# Altium integrated library ISSI SRAM Synchronous SRAM Flow-Through.IntLib: 689 symbols (part 79 of 79)
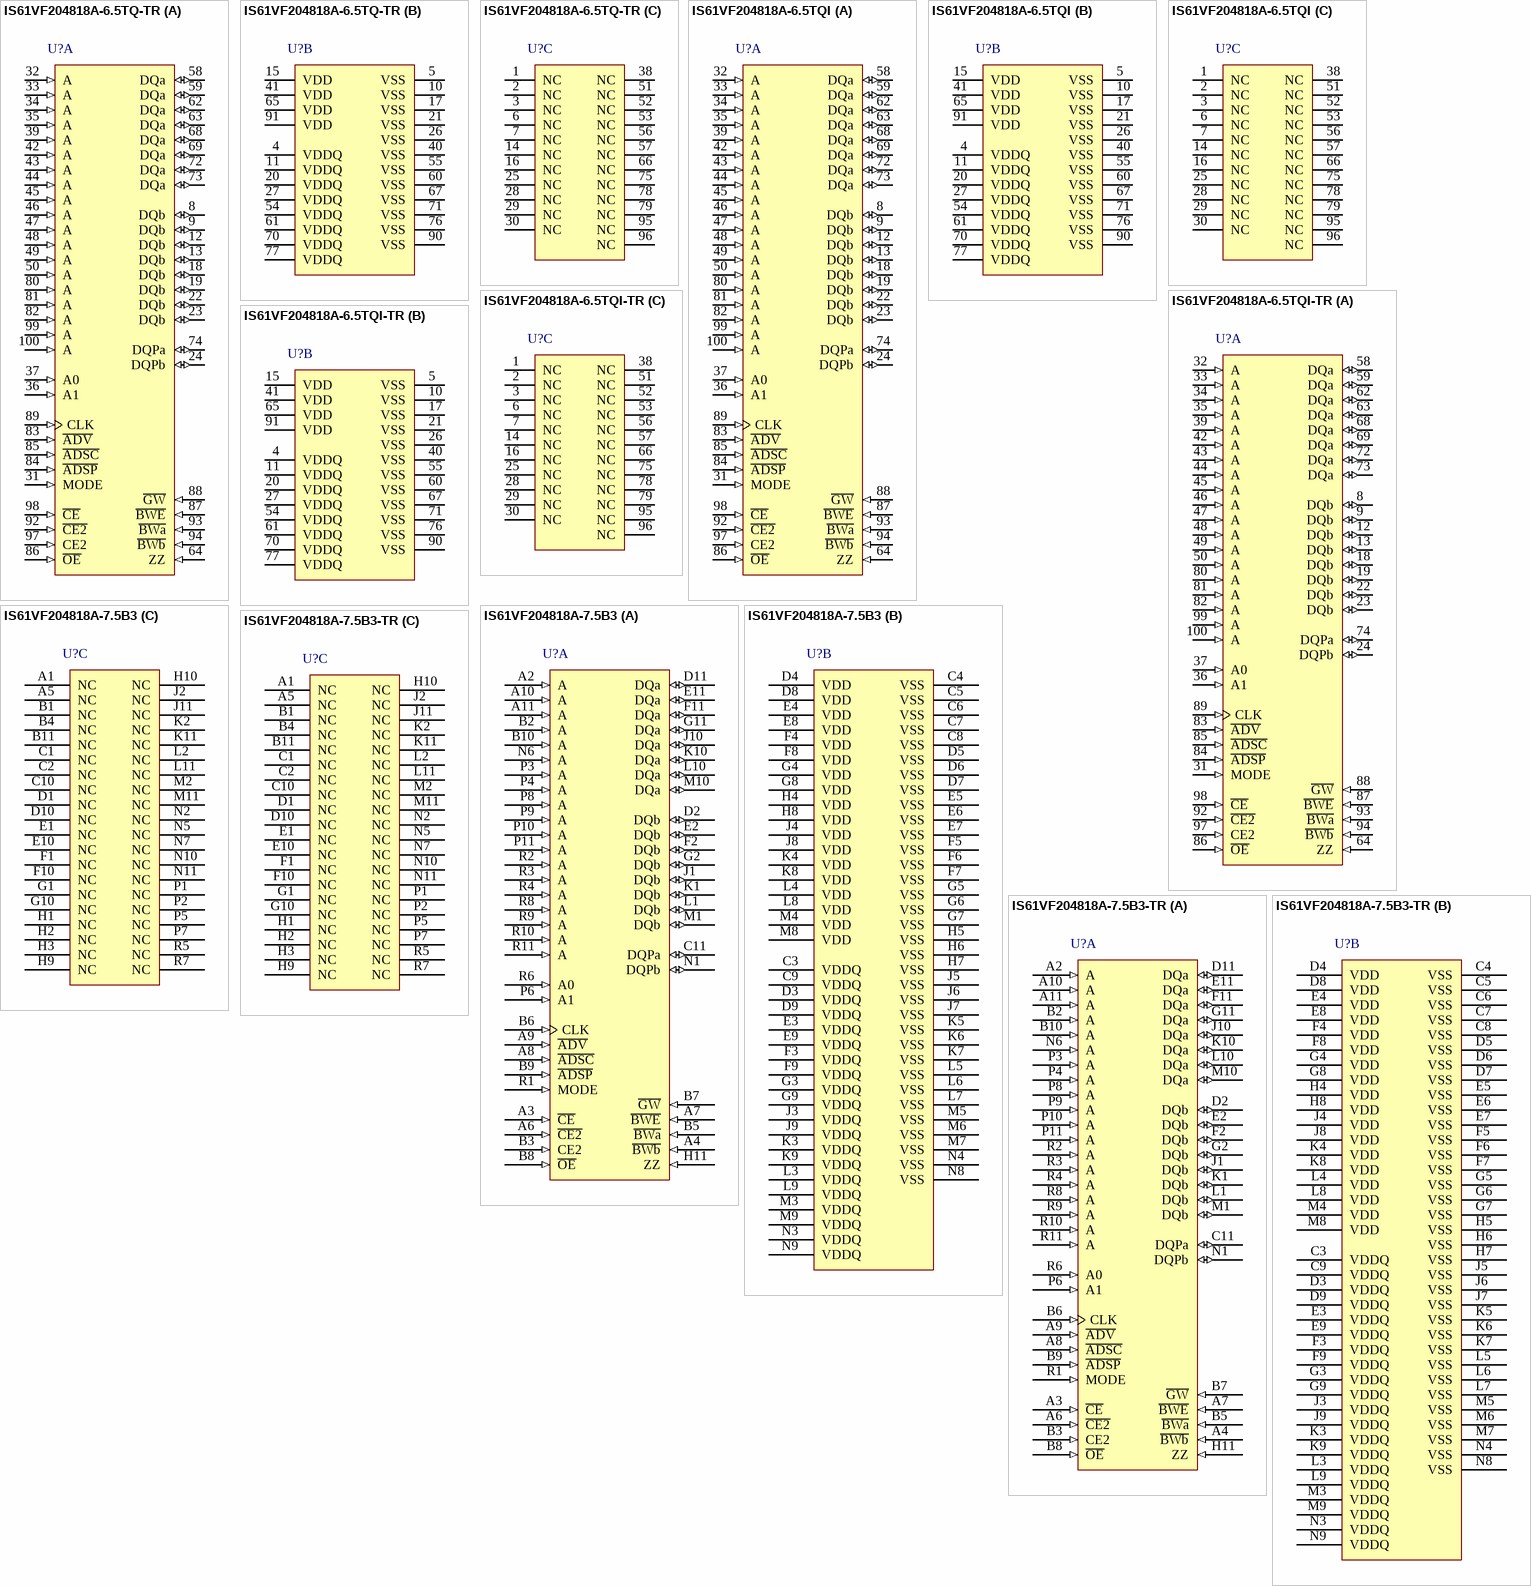
[diagram p213: symbols IS61VF204818A-6.5TQ-TR to IS61VF204818A-7.5B3-TR]

## IS61VF204818A-6.5TQI-TR
designator U?
36 M Synchronous Flow Through SRAM, 2 M x 18, -40 to 85 degC, 100-Pin QFP (TQFP-100); Manufacturer: Integrated Silicon Solution Inc (ISSI); PartNumber: IS61VF204818A-6.5TQI-TR; Density: 36M; Organization: 2Mx18; Packing: Tape & Reel; Vcc: 2.5 V; DatasheetVersion: Rev. B; PackageVersion: Rev. F, 09/2009; PackageReference: TQFP-100; PackageDescription: 100-Pin 20 x 14 mm LQFP, Pitch 0.65 mm; VccQ: 2.5 V; Mounting Technology: Surface Mount; ComponentLink1Description: Manufacturer URL; ComponentLink1URL: http://www.issi.com/US/index.shtml; ComponentLink2Description: Datasheet; ComponentLink2URL: http://www.issi.com/WW/pdf/61VF_LF102436A_204818A.pdf; ComponentLink3Description: Package Specification; ComponentLink3URL: http://www.issi.com/WW/pdf/61VPS_LPS25636A_51218A.pdf
footprint ISSI-TQFP-100-20000X14000DE_N (QFP, 100-Leads, Body 20x14mm, Pitch 0.65mm, IPC Medium Density)
part A pins: 8 DQb (io) "Synchronous Data Input/Output", 9 DQb (io) "Synchronous Data Input/Output", 12 DQb (io) "Synchronous Data Input/Output", 13 DQb (io) "Synchronous Data Input/Output", 18 DQb (io) "Synchronous Data Input/Output", 19 DQb (io) "Synchronous Data Input/Output", 22 DQb (io) "Synchronous Data Input/Output", 23 DQb (io) "Synchronous Data Input/Output", 24 DQPb (io) "Parity Data I/O", 31 MODE (in) "Burst Sequence Mode Selection", 32 A (in) "Synchronous Address Input", 33 A (in) "Synchronous Address Input", 34 A (in) "Synchronous Address Input", 35 A (in) "Synchronous Address Input", 36 A1 (in) "Synchronous Address Input. This pin must tied to the two LSBs of the address bus", 37 A0 (in) "Synchronous Address Input. This pin must tied to the two LSBs of the address bus", 39 A (in) "Synchronous Address Input", 42 A (in) "Synchronous Address Input", 43 A (in) "Synchronous Address Input", 44 A (in) "Synchronous Address Input", 45 A (in) "Synchronous Address Input", 46 A (in) "Synchronous Address Input", 47 A (in) "Synchronous Address Input", 48 A (in) "Synchronous Address Input", 49 A (in) "Synchronous Address Input", 50 A (in) "Synchronous Address Input", 58 DQa (io) "Synchronous Data Input/Output", 59 DQa (io) "Synchronous Data Input/Output", 62 DQa (io) "Synchronous Data Input/Output", 63 DQa (io) "Synchronous Data Input/Output", 64 ZZ (in) "Snooze Enable", 68 DQa (io) "Synchronous Data Input/Output", 69 DQa (io) "Synchronous Data Input/Output", 72 DQa (io) "Synchronous Data Input/Output", 73 DQa (io) "Synchronous Data Input/Output", 74 DQPa (io) "Parity Data I/O", 80 A (in) "Synchronous Address Input", 81 A (in) "Synchronous Address Input", 82 A (in) "Synchronous Address Input", 83 ~{ADV} (in) "Synchronous Burst Address Advance", 84 ~{ADSP} (in) "Synchronous Processor Address Status", 85 ~{ADSC} (in) "Synchronous Controller Address Status", 86 ~{OE} (in) "Output Enable", 87 ~{BWE} (in) "Synchronous Byte Write Enable", 88 ~{GW} (in) "Synchronous Global Write Enable", 89 CLK (in) "Synchronous Clock", 92 ~{CE2} (in) "Synchronous Chip Enable", 93 ~{BWa} (in) "Synchronous Byte Write Enable", 94 ~{BWb} (in) "Synchronous Byte Write Enable", 97 CE2 (in) "Synchronous Chip Enable", 98 ~{CE} (in) "Synchronous Chip Enable", 99 A (in) "Synchronous Address Input", 100 A (in) "Synchronous Address Input"
part B pins: 4 VDDQ (power) "Isolated Output Buffer Supply: 3.3V/2.5V", 5 VSS (power) "Ground", 10 VSS (power) "Ground", 11 VDDQ (power) "Isolated Output Buffer Supply: 3.3V/2.5V", 15 VDD (power) "3.3V/2.5V Power Supply", 17 VSS (power) "Ground", 20 VDDQ (power) "Isolated Output Buffer Supply: 3.3V/2.5V", 21 VSS (power) "Ground", 26 VSS (power) "Ground", 27 VDDQ (power) "Isolated Output Buffer Supply: 3.3V/2.5V", 40 VSS (power) "Ground", 41 VDD (power) "3.3V/2.5V Power Supply", 54 VDDQ (power) "Isolated Output Buffer Supply: 3.3V/2.5V", 55 VSS (power) "Ground", 60 VSS (power) "Ground", 61 VDDQ (power) "Isolated Output Buffer Supply: 3.3V/2.5V", 65 VDD (power) "3.3V/2.5V Power Supply", 67 VSS (power) "Ground", 70 VDDQ (power) "Isolated Output Buffer Supply: 3.3V/2.5V", 71 VSS (power) "Ground", 76 VSS (power) "Ground", 77 VDDQ (power) "Isolated Output Buffer Supply: 3.3V/2.5V", 90 VSS (power) "Ground", 91 VDD (power) "3.3V/2.5V Power Supply"
part C pins: 1 NC "No Connect", 2 NC "No Connect", 3 NC "No Connect", 6 NC "No Connect", 7 NC "No Connect", 14 NC "No Connect", 16 NC "No Connect", 25 NC "No Connect", 28 NC "No Connect", 29 NC "No Connect", 30 NC "No Connect", 38 NC "No Connect", 51 NC "No Connect", 52 NC "No Connect", 53 NC "No Connect", 56 NC "No Connect", 57 NC "No Connect", 66 NC "No Connect", 75 NC "No Connect", 78 NC "No Connect", 79 NC "No Connect", 95 NC "No Connect", 96 NC "No Connect"

## IS61VF204818A-7.5B3
designator U?
36 M Synchronous Flow Through SRAM, 2 M x 18, 0 to 70 degC, 165-Pin BGA (TF-BGA-165); Manufacturer: Integrated Silicon Solution Inc (ISSI); PartNumber: IS61VF204818A-7.5B3; Density: 36M; Organization: 2Mx18; Packing: Tray / Tube; Vcc: 2.5 V; DatasheetVersion: Rev. B; PackageVersion: Rev. B, 08/2008; PackageReference: TF-BGA-165; PackageDescription: 165-Pin 13 x 15 mm TF-BGA, Pitch 1 mm; VccQ: 2.5 V; Mounting Technology: Surface Mount; ComponentLink1Description: Manufacturer URL; ComponentLink1URL: http://www.issi.com/US/index.shtml; ComponentLink2Description: Datasheet; ComponentLink2URL: http://www.issi.com/WW/pdf/61VF_LF102436A_204818A.pdf; ComponentLink3Description: Package Specification; ComponentLink3URL: http://www.issi.com/WW/pdf/61NLP_NVP25636A_51218A.pdf
footprint ISSI-TF-BGA-165-13000X15000DE (BGA, 165-Balls, Body 15x13mm, Pitch 1mm)
part A pins: A2 A (in) "Address Input", A3 ~{CE} (in) "Synchronous Chip Select", A4 ~{BWb} (in) "Synchronous Byte Write Control", A6 ~{CE2} (in) "Synchronous Chip Select", A7 ~{BWE} (in) "Byte Write Enable", A8 ~{ADSC} (in) "Address Status Controller", A9 ~{ADV} (in) "Synchronous Burst Address Advance", A10 A (in) "Address Input", A11 A (in) "Address Input", B2 A (in) "Address Input", B3 CE2 (in) "Synchronous Chip Select", B5 ~{BWa} (in) "Synchronous Byte Write Control", B6 CLK (in) "Synchronous Clock", B7 ~{GW} (in) "Global Write Enable", B8 ~{OE} (in) "Output Enable", B9 ~{ADSP} (in) "Address Status Processor", B10 A (in) "Address Input", C11 DQPa (io) "Data Input/Output", D2 DQb (io) "Data Input/Output", D11 DQa (io) "Data Input/Output", E2 DQb (io) "Data Input/Output", E11 DQa (io) "Data Input/Output", F2 DQb (io) "Data Input/Output", F11 DQa (io) "Data Input/Output", G2 DQb (io) "Data Input/Output", G11 DQa (io) "Data Input/Output", H11 ZZ (in) "Power Sleep Mode", J1 DQb (io) "Data Input/Output", J10 DQa (io) "Data Input/Output", K1 DQb (io) "Data Input/Output", K10 DQa (io) "Data Input/Output", L1 DQb (io) "Data Input/Output", L10 DQa (io) "Data Input/Output", M1 DQb (io) "Data Input/Output", M10 DQa (io) "Data Input/Output", N1 DQPb (io) "Data Input/Output", N6 A (in) "Address Input", P3 A (in) "Address Input", P4 A (in) "Address Input", P6 A1 (in) "Synchronous Burst Address Input", P8 A (in) "Address Input", P9 A (in) "Address Input", P10 A (in) "Address Input", P11 A (in) "Address Input", R1 MODE (in) "Burst Sequence Selection", R2 A (in) "Address Input", R3 A (in) "Address Input", R4 A (in) "Address Input", R6 A0 (in) "Synchronous Burst Address Input", R8 A (in) "Address Input", R9 A (in) "Address Input", R10 A (in) "Address Input", R11 A (in) "Address Input"
part B pins: C3 VDDQ (power) "Output Power Supply", C4 VSS (power) "Ground", C5 VSS (power) "Ground", C6 VSS (power) "Ground", C7 VSS (power) "Ground", C8 VSS (power) "Ground", C9 VDDQ (power) "Output Power Supply", D3 VDDQ (power) "Output Power Supply", D4 VDD (power) "Power Supply", D5 VSS (power) "Ground", D6 VSS (power) "Ground", D7 VSS (power) "Ground", D8 VDD (power) "Power Supply", D9 VDDQ (power) "Output Power Supply", E3 VDDQ (power) "Output Power Supply", E4 VDD (power) "Power Supply", E5 VSS (power) "Ground", E6 VSS (power) "Ground", E7 VSS (power) "Ground", E8 VDD (power) "Power Supply", E9 VDDQ (power) "Output Power Supply", F3 VDDQ (power) "Output Power Supply", F4 VDD (power) "Power Supply", F5 VSS (power) "Ground", F6 VSS (power) "Ground", F7 VSS (power) "Ground", F8 VDD (power) "Power Supply", F9 VDDQ (power) "Output Power Supply", G3 VDDQ (power) "Output Power Supply", G4 VDD (power) "Power Supply", G5 VSS (power) "Ground", G6 VSS (power) "Ground", G7 VSS (power) "Ground", G8 VDD (power) "Power Supply", G9 VDDQ (power) "Output Power Supply", H4 VDD (power) "Power Supply", H5 VSS (power) "Ground", H6 VSS (power) "Ground", H7 VSS (power) "Ground", H8 VDD (power) "Power Supply", J3 VDDQ (power) "Output Power Supply", J4 VDD (power) "Power Supply", J5 VSS (power) "Ground", J6 VSS (power) "Ground", J7 VSS (power) "Ground", J8 VDD (power) "Power Supply", J9 VDDQ (power) "Output Power Supply", K3 VDDQ (power) "Output Power Supply", K4 VDD (power) "Power Supply", K5 VSS (power) "Ground", K6 VSS (power) "Ground", K7 VSS (power) "Ground", K8 VDD (power) "Power Supply", K9 VDDQ (power) "Output Power Supply", L3 VDDQ (power) "Output Power Supply", L4 VDD (power) "Power Supply", L5 VSS (power) "Ground", L6 VSS (power) "Ground", L7 VSS (power) "Ground", L8 VDD (power) "Power Supply", L9 VDDQ (power) "Output Power Supply", M3 VDDQ (power) "Output Power Supply", M4 VDD (power) "Power Supply", M5 VSS (power) "Ground", M6 VSS (power) "Ground", M7 VSS (power) "Ground", M8 VDD (power) "Power Supply", M9 VDDQ (power) "Output Power Supply", N3 VDDQ (power) "Output Power Supply", N4 VSS (power) "Ground", N8 VSS (power) "Ground", N9 VDDQ (power) "Output Power Supply"
part C pins: A1 NC "No Connect", A5 NC "No Connect", B1 NC "No Connect", B4 NC "No Connect", B11 NC "No Connect", C1 NC "No Connect", C2 NC "No Connect", C10 NC "No Connect", D1 NC "No Connect", D10 NC "No Connect", E1 NC "No Connect", E10 NC "No Connect", F1 NC "No Connect", F10 NC "No Connect", G1 NC "No Connect", G10 NC "No Connect", H1 NC "No Connect", H2 NC "No Connect", H3 NC "No Connect", H9 NC "No Connect", H10 NC "No Connect", J2 NC "No Connect", J11 NC "No Connect", K2 NC "No Connect", K11 NC "No Connect", L2 NC "No Connect", L11 NC "No Connect", M2 NC "No Connect", M11 NC "No Connect", N2 NC "No Connect", N5 NC "No Connect", N7 NC "No Connect", N10 NC "No Connect", N11 NC "No Connect", P1 NC "No Connect", P2 NC "No Connect", P5 NC "No Connect", P7 NC "No Connect", R5 NC "No Connect", R7 NC "No Connect"

## IS61VF204818A-7.5B3-TR
designator U?
36 M Synchronous Flow Through SRAM, 2 M x 18, 0 to 70 degC, 165-Pin BGA (TF-BGA-165); Manufacturer: Integrated Silicon Solution Inc (ISSI); PartNumber: IS61VF204818A-7.5B3-TR; Density: 36M; Organization: 2Mx18; Packing: Tape & Reel; Vcc: 2.5 V; DatasheetVersion: Rev. B; PackageVersion: Rev. B, 08/2008; PackageReference: TF-BGA-165; PackageDescription: 165-Pin 13 x 15 mm TF-BGA, Pitch 1 mm; VccQ: 2.5 V; Mounting Technology: Surface Mount; ComponentLink1Description: Manufacturer URL; ComponentLink1URL: http://www.issi.com/US/index.shtml; ComponentLink2Description: Datasheet; ComponentLink2URL: http://www.issi.com/WW/pdf/61VF_LF102436A_204818A.pdf; ComponentLink3Description: Package Specification; ComponentLink3URL: http://www.issi.com/WW/pdf/61NLP_NVP25636A_51218A.pdf
footprint ISSI-TF-BGA-165-13000X15000DE (BGA, 165-Balls, Body 15x13mm, Pitch 1mm)
part A pins: A2 A (in) "Address Input", A3 ~{CE} (in) "Synchronous Chip Select", A4 ~{BWb} (in) "Synchronous Byte Write Control", A6 ~{CE2} (in) "Synchronous Chip Select", A7 ~{BWE} (in) "Byte Write Enable", A8 ~{ADSC} (in) "Address Status Controller", A9 ~{ADV} (in) "Synchronous Burst Address Advance", A10 A (in) "Address Input", A11 A (in) "Address Input", B2 A (in) "Address Input", B3 CE2 (in) "Synchronous Chip Select", B5 ~{BWa} (in) "Synchronous Byte Write Control", B6 CLK (in) "Synchronous Clock", B7 ~{GW} (in) "Global Write Enable", B8 ~{OE} (in) "Output Enable", B9 ~{ADSP} (in) "Address Status Processor", B10 A (in) "Address Input", C11 DQPa (io) "Data Input/Output", D2 DQb (io) "Data Input/Output", D11 DQa (io) "Data Input/Output", E2 DQb (io) "Data Input/Output", E11 DQa (io) "Data Input/Output", F2 DQb (io) "Data Input/Output", F11 DQa (io) "Data Input/Output", G2 DQb (io) "Data Input/Output", G11 DQa (io) "Data Input/Output", H11 ZZ (in) "Power Sleep Mode", J1 DQb (io) "Data Input/Output", J10 DQa (io) "Data Input/Output", K1 DQb (io) "Data Input/Output", K10 DQa (io) "Data Input/Output", L1 DQb (io) "Data Input/Output", L10 DQa (io) "Data Input/Output", M1 DQb (io) "Data Input/Output", M10 DQa (io) "Data Input/Output", N1 DQPb (io) "Data Input/Output", N6 A (in) "Address Input", P3 A (in) "Address Input", P4 A (in) "Address Input", P6 A1 (in) "Synchronous Burst Address Input", P8 A (in) "Address Input", P9 A (in) "Address Input", P10 A (in) "Address Input", P11 A (in) "Address Input", R1 MODE (in) "Burst Sequence Selection", R2 A (in) "Address Input", R3 A (in) "Address Input", R4 A (in) "Address Input", R6 A0 (in) "Synchronous Burst Address Input", R8 A (in) "Address Input", R9 A (in) "Address Input", R10 A (in) "Address Input", R11 A (in) "Address Input"
part B pins: C3 VDDQ (power) "Output Power Supply", C4 VSS (power) "Ground", C5 VSS (power) "Ground", C6 VSS (power) "Ground", C7 VSS (power) "Ground", C8 VSS (power) "Ground", C9 VDDQ (power) "Output Power Supply", D3 VDDQ (power) "Output Power Supply", D4 VDD (power) "Power Supply", D5 VSS (power) "Ground", D6 VSS (power) "Ground", D7 VSS (power) "Ground", D8 VDD (power) "Power Supply", D9 VDDQ (power) "Output Power Supply", E3 VDDQ (power) "Output Power Supply", E4 VDD (power) "Power Supply", E5 VSS (power) "Ground", E6 VSS (power) "Ground", E7 VSS (power) "Ground", E8 VDD (power) "Power Supply", E9 VDDQ (power) "Output Power Supply", F3 VDDQ (power) "Output Power Supply", F4 VDD (power) "Power Supply", F5 VSS (power) "Ground", F6 VSS (power) "Ground", F7 VSS (power) "Ground", F8 VDD (power) "Power Supply", F9 VDDQ (power) "Output Power Supply", G3 VDDQ (power) "Output Power Supply", G4 VDD (power) "Power Supply", G5 VSS (power) "Ground", G6 VSS (power) "Ground", G7 VSS (power) "Ground", G8 VDD (power) "Power Supply", G9 VDDQ (power) "Output Power Supply", H4 VDD (power) "Power Supply", H5 VSS (power) "Ground", H6 VSS (power) "Ground", H7 VSS (power) "Ground", H8 VDD (power) "Power Supply", J3 VDDQ (power) "Output Power Supply", J4 VDD (power) "Power Supply", J5 VSS (power) "Ground", J6 VSS (power) "Ground", J7 VSS (power) "Ground", J8 VDD (power) "Power Supply", J9 VDDQ (power) "Output Power Supply", K3 VDDQ (power) "Output Power Supply", K4 VDD (power) "Power Supply", K5 VSS (power) "Ground", K6 VSS (power) "Ground", K7 VSS (power) "Ground", K8 VDD (power) "Power Supply", K9 VDDQ (power) "Output Power Supply", L3 VDDQ (power) "Output Power Supply", L4 VDD (power) "Power Supply", L5 VSS (power) "Ground", L6 VSS (power) "Ground", L7 VSS (power) "Ground", L8 VDD (power) "Power Supply", L9 VDDQ (power) "Output Power Supply", M3 VDDQ (power) "Output Power Supply", M4 VDD (power) "Power Supply", M5 VSS (power) "Ground", M6 VSS (power) "Ground", M7 VSS (power) "Ground", M8 VDD (power) "Power Supply", M9 VDDQ (power) "Output Power Supply", N3 VDDQ (power) "Output Power Supply", N4 VSS (power) "Ground", N8 VSS (power) "Ground", N9 VDDQ (power) "Output Power Supply"
part C pins: A1 NC "No Connect", A5 NC "No Connect", B1 NC "No Connect", B4 NC "No Connect", B11 NC "No Connect", C1 NC "No Connect", C2 NC "No Connect", C10 NC "No Connect", D1 NC "No Connect", D10 NC "No Connect", E1 NC "No Connect", E10 NC "No Connect", F1 NC "No Connect", F10 NC "No Connect", G1 NC "No Connect", G10 NC "No Connect", H1 NC "No Connect", H2 NC "No Connect", H3 NC "No Connect", H9 NC "No Connect", H10 NC "No Connect", J2 NC "No Connect", J11 NC "No Connect", K2 NC "No Connect", K11 NC "No Connect", L2 NC "No Connect", L11 NC "No Connect", M2 NC "No Connect", M11 NC "No Connect", N2 NC "No Connect", N5 NC "No Connect", N7 NC "No Connect", N10 NC "No Connect", N11 NC "No Connect", P1 NC "No Connect", P2 NC "No Connect", P5 NC "No Connect", P7 NC "No Connect", R5 NC "No Connect", R7 NC "No Connect"

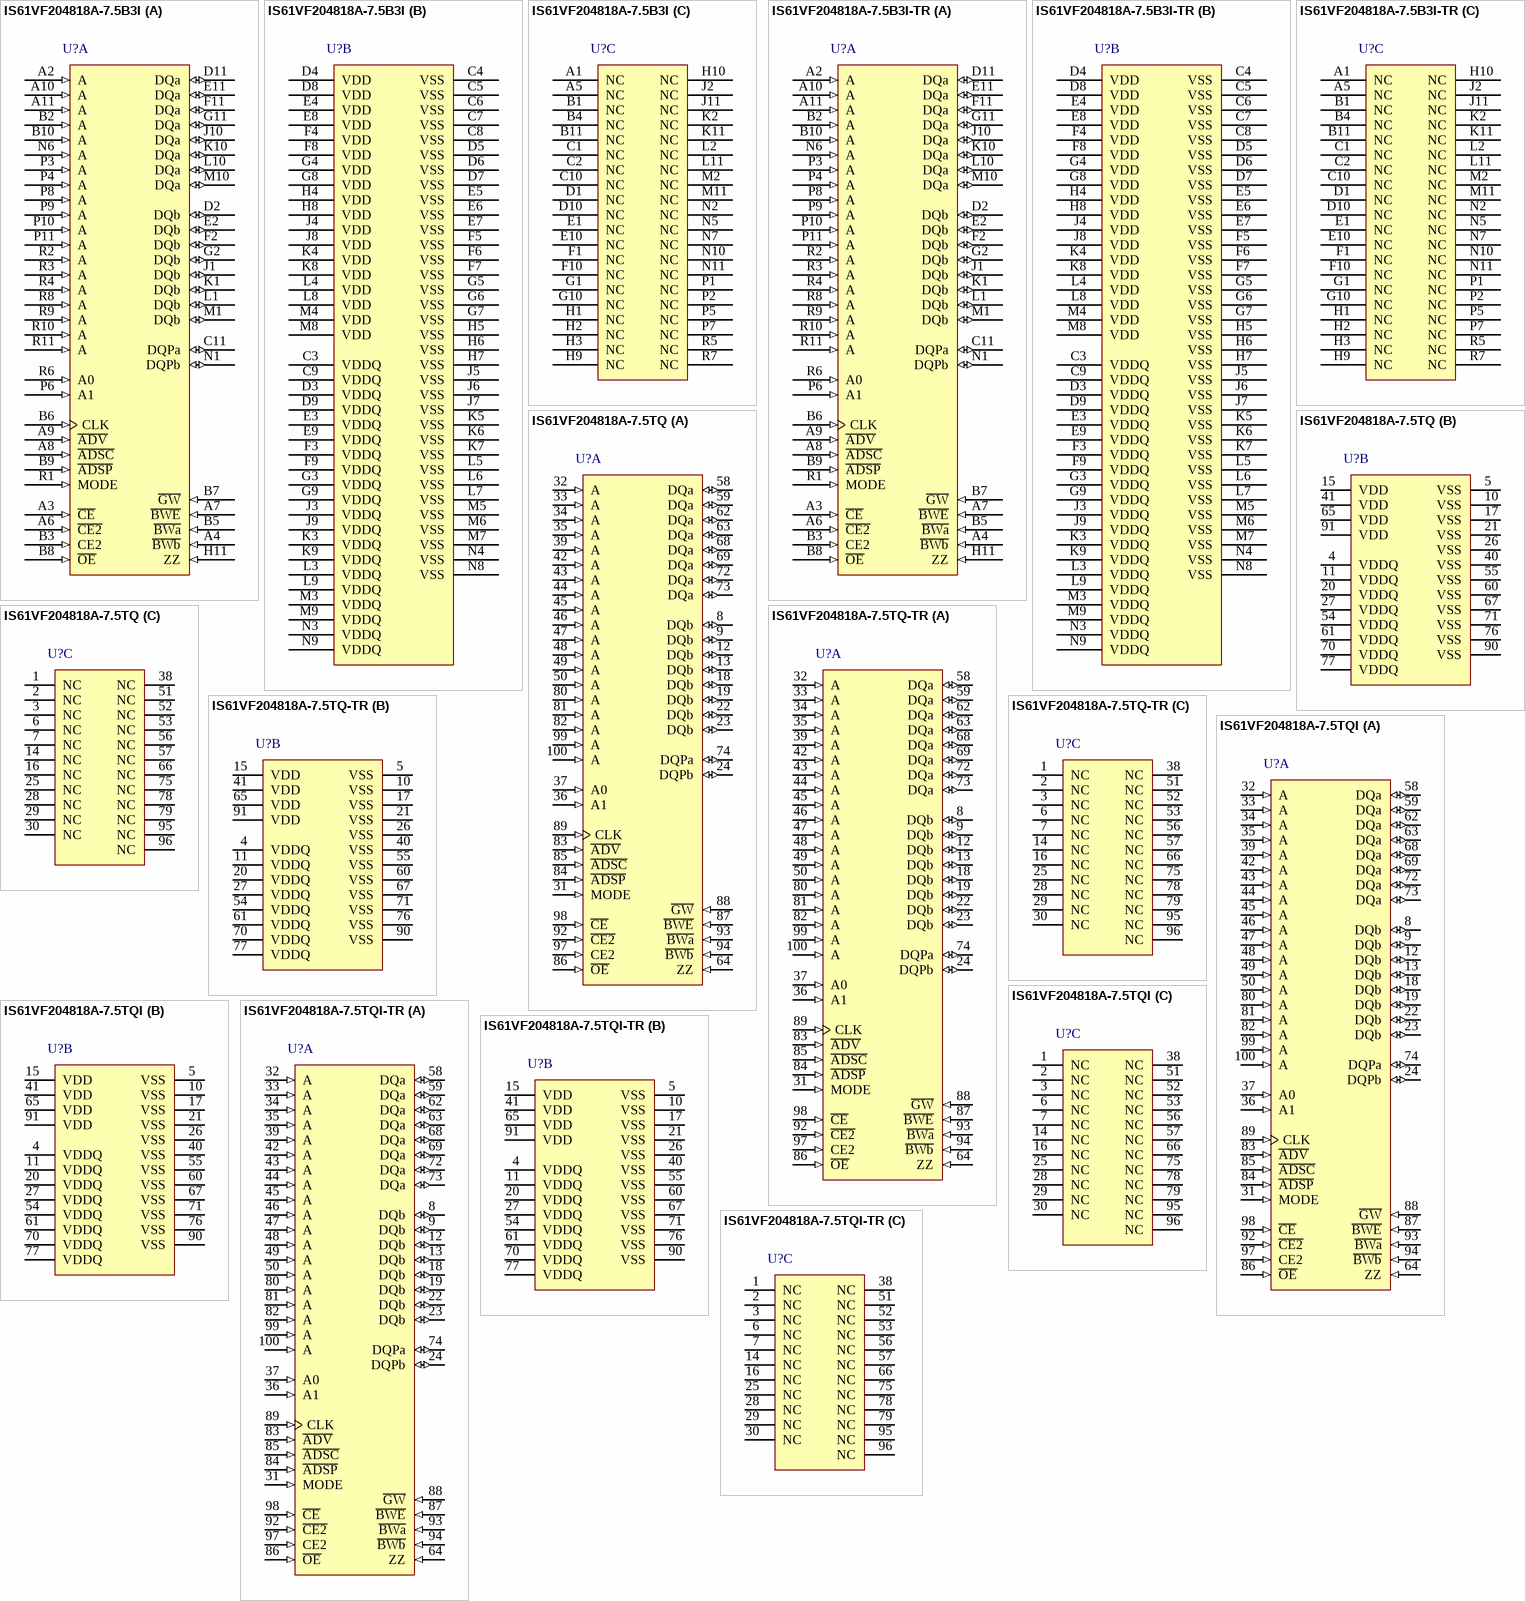
[diagram p135: symbols IS61VF204818A-7.5B3I to IS61VF204818A-7.5TQI-TR]

## IS61VF204818A-7.5B3I
designator U?
36 M Synchronous Flow Through SRAM, 2 M x 18, -40 to 85 degC, 165-Pin BGA (TF-BGA-165); Manufacturer: Integrated Silicon Solution Inc (ISSI); PartNumber: IS61VF204818A-7.5B3I; Density: 36M; Organization: 2Mx18; Packing: Tray / Tube; Vcc: 2.5 V; DatasheetVersion: Rev. B; PackageVersion: Rev. B, 08/2008; PackageReference: TF-BGA-165; PackageDescription: 165-Pin 13 x 15 mm TF-BGA, Pitch 1 mm; VccQ: 2.5 V; Mounting Technology: Surface Mount; ComponentLink1Description: Manufacturer URL; ComponentLink1URL: http://www.issi.com/US/index.shtml; ComponentLink2Description: Datasheet; ComponentLink2URL: http://www.issi.com/WW/pdf/61VF_LF102436A_204818A.pdf; ComponentLink3Description: Package Specification; ComponentLink3URL: http://www.issi.com/WW/pdf/61NLP_NVP25636A_51218A.pdf
footprint ISSI-TF-BGA-165-13000X15000DE (BGA, 165-Balls, Body 15x13mm, Pitch 1mm)
part A pins: A2 A (in) "Address Input", A3 ~{CE} (in) "Synchronous Chip Select", A4 ~{BWb} (in) "Synchronous Byte Write Control", A6 ~{CE2} (in) "Synchronous Chip Select", A7 ~{BWE} (in) "Byte Write Enable", A8 ~{ADSC} (in) "Address Status Controller", A9 ~{ADV} (in) "Synchronous Burst Address Advance", A10 A (in) "Address Input", A11 A (in) "Address Input", B2 A (in) "Address Input", B3 CE2 (in) "Synchronous Chip Select", B5 ~{BWa} (in) "Synchronous Byte Write Control", B6 CLK (in) "Synchronous Clock", B7 ~{GW} (in) "Global Write Enable", B8 ~{OE} (in) "Output Enable", B9 ~{ADSP} (in) "Address Status Processor", B10 A (in) "Address Input", C11 DQPa (io) "Data Input/Output", D2 DQb (io) "Data Input/Output", D11 DQa (io) "Data Input/Output", E2 DQb (io) "Data Input/Output", E11 DQa (io) "Data Input/Output", F2 DQb (io) "Data Input/Output", F11 DQa (io) "Data Input/Output", G2 DQb (io) "Data Input/Output", G11 DQa (io) "Data Input/Output", H11 ZZ (in) "Power Sleep Mode", J1 DQb (io) "Data Input/Output", J10 DQa (io) "Data Input/Output", K1 DQb (io) "Data Input/Output", K10 DQa (io) "Data Input/Output", L1 DQb (io) "Data Input/Output", L10 DQa (io) "Data Input/Output", M1 DQb (io) "Data Input/Output", M10 DQa (io) "Data Input/Output", N1 DQPb (io) "Data Input/Output", N6 A (in) "Address Input", P3 A (in) "Address Input", P4 A (in) "Address Input", P6 A1 (in) "Synchronous Burst Address Input", P8 A (in) "Address Input", P9 A (in) "Address Input", P10 A (in) "Address Input", P11 A (in) "Address Input", R1 MODE (in) "Burst Sequence Selection", R2 A (in) "Address Input", R3 A (in) "Address Input", R4 A (in) "Address Input", R6 A0 (in) "Synchronous Burst Address Input", R8 A (in) "Address Input", R9 A (in) "Address Input", R10 A (in) "Address Input", R11 A (in) "Address Input"
part B pins: C3 VDDQ (power) "Output Power Supply", C4 VSS (power) "Ground", C5 VSS (power) "Ground", C6 VSS (power) "Ground", C7 VSS (power) "Ground", C8 VSS (power) "Ground", C9 VDDQ (power) "Output Power Supply", D3 VDDQ (power) "Output Power Supply", D4 VDD (power) "Power Supply", D5 VSS (power) "Ground", D6 VSS (power) "Ground", D7 VSS (power) "Ground", D8 VDD (power) "Power Supply", D9 VDDQ (power) "Output Power Supply", E3 VDDQ (power) "Output Power Supply", E4 VDD (power) "Power Supply", E5 VSS (power) "Ground", E6 VSS (power) "Ground", E7 VSS (power) "Ground", E8 VDD (power) "Power Supply", E9 VDDQ (power) "Output Power Supply", F3 VDDQ (power) "Output Power Supply", F4 VDD (power) "Power Supply", F5 VSS (power) "Ground", F6 VSS (power) "Ground", F7 VSS (power) "Ground", F8 VDD (power) "Power Supply", F9 VDDQ (power) "Output Power Supply", G3 VDDQ (power) "Output Power Supply", G4 VDD (power) "Power Supply", G5 VSS (power) "Ground", G6 VSS (power) "Ground", G7 VSS (power) "Ground", G8 VDD (power) "Power Supply", G9 VDDQ (power) "Output Power Supply", H4 VDD (power) "Power Supply", H5 VSS (power) "Ground", H6 VSS (power) "Ground", H7 VSS (power) "Ground", H8 VDD (power) "Power Supply", J3 VDDQ (power) "Output Power Supply", J4 VDD (power) "Power Supply", J5 VSS (power) "Ground", J6 VSS (power) "Ground", J7 VSS (power) "Ground", J8 VDD (power) "Power Supply", J9 VDDQ (power) "Output Power Supply", K3 VDDQ (power) "Output Power Supply", K4 VDD (power) "Power Supply", K5 VSS (power) "Ground", K6 VSS (power) "Ground", K7 VSS (power) "Ground", K8 VDD (power) "Power Supply", K9 VDDQ (power) "Output Power Supply", L3 VDDQ (power) "Output Power Supply", L4 VDD (power) "Power Supply", L5 VSS (power) "Ground", L6 VSS (power) "Ground", L7 VSS (power) "Ground", L8 VDD (power) "Power Supply", L9 VDDQ (power) "Output Power Supply", M3 VDDQ (power) "Output Power Supply", M4 VDD (power) "Power Supply", M5 VSS (power) "Ground", M6 VSS (power) "Ground", M7 VSS (power) "Ground", M8 VDD (power) "Power Supply", M9 VDDQ (power) "Output Power Supply", N3 VDDQ (power) "Output Power Supply", N4 VSS (power) "Ground", N8 VSS (power) "Ground", N9 VDDQ (power) "Output Power Supply"
part C pins: A1 NC "No Connect", A5 NC "No Connect", B1 NC "No Connect", B4 NC "No Connect", B11 NC "No Connect", C1 NC "No Connect", C2 NC "No Connect", C10 NC "No Connect", D1 NC "No Connect", D10 NC "No Connect", E1 NC "No Connect", E10 NC "No Connect", F1 NC "No Connect", F10 NC "No Connect", G1 NC "No Connect", G10 NC "No Connect", H1 NC "No Connect", H2 NC "No Connect", H3 NC "No Connect", H9 NC "No Connect", H10 NC "No Connect", J2 NC "No Connect", J11 NC "No Connect", K2 NC "No Connect", K11 NC "No Connect", L2 NC "No Connect", L11 NC "No Connect", M2 NC "No Connect", M11 NC "No Connect", N2 NC "No Connect", N5 NC "No Connect", N7 NC "No Connect", N10 NC "No Connect", N11 NC "No Connect", P1 NC "No Connect", P2 NC "No Connect", P5 NC "No Connect", P7 NC "No Connect", R5 NC "No Connect", R7 NC "No Connect"

## IS61VF204818A-7.5B3I-TR
designator U?
36 M Synchronous Flow Through SRAM, 2 M x 18, -40 to 85 degC, 165-Pin BGA (TF-BGA-165); Manufacturer: Integrated Silicon Solution Inc (ISSI); PartNumber: IS61VF204818A-7.5B3I-TR; Density: 36M; Organization: 2Mx18; Packing: Tape & Reel; Vcc: 2.5 V; DatasheetVersion: Rev. B; PackageVersion: Rev. B, 08/2008; PackageReference: TF-BGA-165; PackageDescription: 165-Pin 13 x 15 mm TF-BGA, Pitch 1 mm; VccQ: 2.5 V; Mounting Technology: Surface Mount; ComponentLink1Description: Manufacturer URL; ComponentLink1URL: http://www.issi.com/US/index.shtml; ComponentLink2Description: Datasheet; ComponentLink2URL: http://www.issi.com/WW/pdf/61VF_LF102436A_204818A.pdf; ComponentLink3Description: Package Specification; ComponentLink3URL: http://www.issi.com/WW/pdf/61NLP_NVP25636A_51218A.pdf
footprint ISSI-TF-BGA-165-13000X15000DE (BGA, 165-Balls, Body 15x13mm, Pitch 1mm)
part A pins: A2 A (in) "Address Input", A3 ~{CE} (in) "Synchronous Chip Select", A4 ~{BWb} (in) "Synchronous Byte Write Control", A6 ~{CE2} (in) "Synchronous Chip Select", A7 ~{BWE} (in) "Byte Write Enable", A8 ~{ADSC} (in) "Address Status Controller", A9 ~{ADV} (in) "Synchronous Burst Address Advance", A10 A (in) "Address Input", A11 A (in) "Address Input", B2 A (in) "Address Input", B3 CE2 (in) "Synchronous Chip Select", B5 ~{BWa} (in) "Synchronous Byte Write Control", B6 CLK (in) "Synchronous Clock", B7 ~{GW} (in) "Global Write Enable", B8 ~{OE} (in) "Output Enable", B9 ~{ADSP} (in) "Address Status Processor", B10 A (in) "Address Input", C11 DQPa (io) "Data Input/Output", D2 DQb (io) "Data Input/Output", D11 DQa (io) "Data Input/Output", E2 DQb (io) "Data Input/Output", E11 DQa (io) "Data Input/Output", F2 DQb (io) "Data Input/Output", F11 DQa (io) "Data Input/Output", G2 DQb (io) "Data Input/Output", G11 DQa (io) "Data Input/Output", H11 ZZ (in) "Power Sleep Mode", J1 DQb (io) "Data Input/Output", J10 DQa (io) "Data Input/Output", K1 DQb (io) "Data Input/Output", K10 DQa (io) "Data Input/Output", L1 DQb (io) "Data Input/Output", L10 DQa (io) "Data Input/Output", M1 DQb (io) "Data Input/Output", M10 DQa (io) "Data Input/Output", N1 DQPb (io) "Data Input/Output", N6 A (in) "Address Input", P3 A (in) "Address Input", P4 A (in) "Address Input", P6 A1 (in) "Synchronous Burst Address Input", P8 A (in) "Address Input", P9 A (in) "Address Input", P10 A (in) "Address Input", P11 A (in) "Address Input", R1 MODE (in) "Burst Sequence Selection", R2 A (in) "Address Input", R3 A (in) "Address Input", R4 A (in) "Address Input", R6 A0 (in) "Synchronous Burst Address Input", R8 A (in) "Address Input", R9 A (in) "Address Input", R10 A (in) "Address Input", R11 A (in) "Address Input"
part B pins: C3 VDDQ (power) "Output Power Supply", C4 VSS (power) "Ground", C5 VSS (power) "Ground", C6 VSS (power) "Ground", C7 VSS (power) "Ground", C8 VSS (power) "Ground", C9 VDDQ (power) "Output Power Supply", D3 VDDQ (power) "Output Power Supply", D4 VDD (power) "Power Supply", D5 VSS (power) "Ground", D6 VSS (power) "Ground", D7 VSS (power) "Ground", D8 VDD (power) "Power Supply", D9 VDDQ (power) "Output Power Supply", E3 VDDQ (power) "Output Power Supply", E4 VDD (power) "Power Supply", E5 VSS (power) "Ground", E6 VSS (power) "Ground", E7 VSS (power) "Ground", E8 VDD (power) "Power Supply", E9 VDDQ (power) "Output Power Supply", F3 VDDQ (power) "Output Power Supply", F4 VDD (power) "Power Supply", F5 VSS (power) "Ground", F6 VSS (power) "Ground", F7 VSS (power) "Ground", F8 VDD (power) "Power Supply", F9 VDDQ (power) "Output Power Supply", G3 VDDQ (power) "Output Power Supply", G4 VDD (power) "Power Supply", G5 VSS (power) "Ground", G6 VSS (power) "Ground", G7 VSS (power) "Ground", G8 VDD (power) "Power Supply", G9 VDDQ (power) "Output Power Supply", H4 VDD (power) "Power Supply", H5 VSS (power) "Ground", H6 VSS (power) "Ground", H7 VSS (power) "Ground", H8 VDD (power) "Power Supply", J3 VDDQ (power) "Output Power Supply", J4 VDD (power) "Power Supply", J5 VSS (power) "Ground", J6 VSS (power) "Ground", J7 VSS (power) "Ground", J8 VDD (power) "Power Supply", J9 VDDQ (power) "Output Power Supply", K3 VDDQ (power) "Output Power Supply", K4 VDD (power) "Power Supply", K5 VSS (power) "Ground", K6 VSS (power) "Ground", K7 VSS (power) "Ground", K8 VDD (power) "Power Supply", K9 VDDQ (power) "Output Power Supply", L3 VDDQ (power) "Output Power Supply", L4 VDD (power) "Power Supply", L5 VSS (power) "Ground", L6 VSS (power) "Ground", L7 VSS (power) "Ground", L8 VDD (power) "Power Supply", L9 VDDQ (power) "Output Power Supply", M3 VDDQ (power) "Output Power Supply", M4 VDD (power) "Power Supply", M5 VSS (power) "Ground", M6 VSS (power) "Ground", M7 VSS (power) "Ground", M8 VDD (power) "Power Supply", M9 VDDQ (power) "Output Power Supply", N3 VDDQ (power) "Output Power Supply", N4 VSS (power) "Ground", N8 VSS (power) "Ground", N9 VDDQ (power) "Output Power Supply"
part C pins: A1 NC "No Connect", A5 NC "No Connect", B1 NC "No Connect", B4 NC "No Connect", B11 NC "No Connect", C1 NC "No Connect", C2 NC "No Connect", C10 NC "No Connect", D1 NC "No Connect", D10 NC "No Connect", E1 NC "No Connect", E10 NC "No Connect", F1 NC "No Connect", F10 NC "No Connect", G1 NC "No Connect", G10 NC "No Connect", H1 NC "No Connect", H2 NC "No Connect", H3 NC "No Connect", H9 NC "No Connect", H10 NC "No Connect", J2 NC "No Connect", J11 NC "No Connect", K2 NC "No Connect", K11 NC "No Connect", L2 NC "No Connect", L11 NC "No Connect", M2 NC "No Connect", M11 NC "No Connect", N2 NC "No Connect", N5 NC "No Connect", N7 NC "No Connect", N10 NC "No Connect", N11 NC "No Connect", P1 NC "No Connect", P2 NC "No Connect", P5 NC "No Connect", P7 NC "No Connect", R5 NC "No Connect", R7 NC "No Connect"

## IS61VF204818A-7.5TQ
designator U?
36 M Synchronous Flow Through SRAM, 2 M x 18, 0 to 70 degC, 100-Pin QFP (TQFP-100); Manufacturer: Integrated Silicon Solution Inc (ISSI); PartNumber: IS61VF204818A-7.5TQ; Density: 36M; Organization: 2Mx18; Packing: Tray / Tube; Vcc: 2.5 V; DatasheetVersion: Rev. B; PackageVersion: Rev. F, 09/2009; PackageReference: TQFP-100; PackageDescription: 100-Pin 20 x 14 mm LQFP, Pitch 0.65 mm; VccQ: 2.5 V; Mounting Technology: Surface Mount; ComponentLink1Description: Manufacturer URL; ComponentLink1URL: http://www.issi.com/US/index.shtml; ComponentLink2Description: Datasheet; ComponentLink2URL: http://www.issi.com/WW/pdf/61VF_LF102436A_204818A.pdf; ComponentLink3Description: Package Specification; ComponentLink3URL: http://www.issi.com/WW/pdf/61VPS_LPS25636A_51218A.pdf
footprint ISSI-TQFP-100-20000X14000DE_N (QFP, 100-Leads, Body 20x14mm, Pitch 0.65mm, IPC Medium Density)
part A pins: 8 DQb (io) "Synchronous Data Input/Output", 9 DQb (io) "Synchronous Data Input/Output", 12 DQb (io) "Synchronous Data Input/Output", 13 DQb (io) "Synchronous Data Input/Output", 18 DQb (io) "Synchronous Data Input/Output", 19 DQb (io) "Synchronous Data Input/Output", 22 DQb (io) "Synchronous Data Input/Output", 23 DQb (io) "Synchronous Data Input/Output", 24 DQPb (io) "Parity Data I/O", 31 MODE (in) "Burst Sequence Mode Selection", 32 A (in) "Synchronous Address Input", 33 A (in) "Synchronous Address Input", 34 A (in) "Synchronous Address Input", 35 A (in) "Synchronous Address Input", 36 A1 (in) "Synchronous Address Input. This pin must tied to the two LSBs of the address bus", 37 A0 (in) "Synchronous Address Input. This pin must tied to the two LSBs of the address bus", 39 A (in) "Synchronous Address Input", 42 A (in) "Synchronous Address Input", 43 A (in) "Synchronous Address Input", 44 A (in) "Synchronous Address Input", 45 A (in) "Synchronous Address Input", 46 A (in) "Synchronous Address Input", 47 A (in) "Synchronous Address Input", 48 A (in) "Synchronous Address Input", 49 A (in) "Synchronous Address Input", 50 A (in) "Synchronous Address Input", 58 DQa (io) "Synchronous Data Input/Output", 59 DQa (io) "Synchronous Data Input/Output", 62 DQa (io) "Synchronous Data Input/Output", 63 DQa (io) "Synchronous Data Input/Output", 64 ZZ (in) "Snooze Enable", 68 DQa (io) "Synchronous Data Input/Output", 69 DQa (io) "Synchronous Data Input/Output", 72 DQa (io) "Synchronous Data Input/Output", 73 DQa (io) "Synchronous Data Input/Output", 74 DQPa (io) "Parity Data I/O", 80 A (in) "Synchronous Address Input", 81 A (in) "Synchronous Address Input", 82 A (in) "Synchronous Address Input", 83 ~{ADV} (in) "Synchronous Burst Address Advance", 84 ~{ADSP} (in) "Synchronous Processor Address Status", 85 ~{ADSC} (in) "Synchronous Controller Address Status", 86 ~{OE} (in) "Output Enable", 87 ~{BWE} (in) "Synchronous Byte Write Enable", 88 ~{GW} (in) "Synchronous Global Write Enable", 89 CLK (in) "Synchronous Clock", 92 ~{CE2} (in) "Synchronous Chip Enable", 93 ~{BWa} (in) "Synchronous Byte Write Enable", 94 ~{BWb} (in) "Synchronous Byte Write Enable", 97 CE2 (in) "Synchronous Chip Enable", 98 ~{CE} (in) "Synchronous Chip Enable", 99 A (in) "Synchronous Address Input", 100 A (in) "Synchronous Address Input"
part B pins: 4 VDDQ (power) "Isolated Output Buffer Supply: 3.3V/2.5V", 5 VSS (power) "Ground", 10 VSS (power) "Ground", 11 VDDQ (power) "Isolated Output Buffer Supply: 3.3V/2.5V", 15 VDD (power) "3.3V/2.5V Power Supply", 17 VSS (power) "Ground", 20 VDDQ (power) "Isolated Output Buffer Supply: 3.3V/2.5V", 21 VSS (power) "Ground", 26 VSS (power) "Ground", 27 VDDQ (power) "Isolated Output Buffer Supply: 3.3V/2.5V", 40 VSS (power) "Ground", 41 VDD (power) "3.3V/2.5V Power Supply", 54 VDDQ (power) "Isolated Output Buffer Supply: 3.3V/2.5V", 55 VSS (power) "Ground", 60 VSS (power) "Ground", 61 VDDQ (power) "Isolated Output Buffer Supply: 3.3V/2.5V", 65 VDD (power) "3.3V/2.5V Power Supply", 67 VSS (power) "Ground", 70 VDDQ (power) "Isolated Output Buffer Supply: 3.3V/2.5V", 71 VSS (power) "Ground", 76 VSS (power) "Ground", 77 VDDQ (power) "Isolated Output Buffer Supply: 3.3V/2.5V", 90 VSS (power) "Ground", 91 VDD (power) "3.3V/2.5V Power Supply"
part C pins: 1 NC "No Connect", 2 NC "No Connect", 3 NC "No Connect", 6 NC "No Connect", 7 NC "No Connect", 14 NC "No Connect", 16 NC "No Connect", 25 NC "No Connect", 28 NC "No Connect", 29 NC "No Connect", 30 NC "No Connect", 38 NC "No Connect", 51 NC "No Connect", 52 NC "No Connect", 53 NC "No Connect", 56 NC "No Connect", 57 NC "No Connect", 66 NC "No Connect", 75 NC "No Connect", 78 NC "No Connect", 79 NC "No Connect", 95 NC "No Connect", 96 NC "No Connect"

## IS61VF204818A-7.5TQ-TR
designator U?
36 M Synchronous Flow Through SRAM, 2 M x 18, 0 to 70 degC, 100-Pin QFP (TQFP-100); Manufacturer: Integrated Silicon Solution Inc (ISSI); PartNumber: IS61VF204818A-7.5TQ-TR; Density: 36M; Organization: 2Mx18; Packing: Tape & Reel; Vcc: 2.5 V; DatasheetVersion: Rev. B; PackageVersion: Rev. F, 09/2009; PackageReference: TQFP-100; PackageDescription: 100-Pin 20 x 14 mm LQFP, Pitch 0.65 mm; VccQ: 2.5 V; Mounting Technology: Surface Mount; ComponentLink1Description: Manufacturer URL; ComponentLink1URL: http://www.issi.com/US/index.shtml; ComponentLink2Description: Datasheet; ComponentLink2URL: http://www.issi.com/WW/pdf/61VF_LF102436A_204818A.pdf; ComponentLink3Description: Package Specification; ComponentLink3URL: http://www.issi.com/WW/pdf/61VPS_LPS25636A_51218A.pdf
footprint ISSI-TQFP-100-20000X14000DE_N (QFP, 100-Leads, Body 20x14mm, Pitch 0.65mm, IPC Medium Density)
part A pins: 8 DQb (io) "Synchronous Data Input/Output", 9 DQb (io) "Synchronous Data Input/Output", 12 DQb (io) "Synchronous Data Input/Output", 13 DQb (io) "Synchronous Data Input/Output", 18 DQb (io) "Synchronous Data Input/Output", 19 DQb (io) "Synchronous Data Input/Output", 22 DQb (io) "Synchronous Data Input/Output", 23 DQb (io) "Synchronous Data Input/Output", 24 DQPb (io) "Parity Data I/O", 31 MODE (in) "Burst Sequence Mode Selection", 32 A (in) "Synchronous Address Input", 33 A (in) "Synchronous Address Input", 34 A (in) "Synchronous Address Input", 35 A (in) "Synchronous Address Input", 36 A1 (in) "Synchronous Address Input. This pin must tied to the two LSBs of the address bus", 37 A0 (in) "Synchronous Address Input. This pin must tied to the two LSBs of the address bus", 39 A (in) "Synchronous Address Input", 42 A (in) "Synchronous Address Input", 43 A (in) "Synchronous Address Input", 44 A (in) "Synchronous Address Input", 45 A (in) "Synchronous Address Input", 46 A (in) "Synchronous Address Input", 47 A (in) "Synchronous Address Input", 48 A (in) "Synchronous Address Input", 49 A (in) "Synchronous Address Input", 50 A (in) "Synchronous Address Input", 58 DQa (io) "Synchronous Data Input/Output", 59 DQa (io) "Synchronous Data Input/Output", 62 DQa (io) "Synchronous Data Input/Output", 63 DQa (io) "Synchronous Data Input/Output", 64 ZZ (in) "Snooze Enable", 68 DQa (io) "Synchronous Data Input/Output", 69 DQa (io) "Synchronous Data Input/Output", 72 DQa (io) "Synchronous Data Input/Output", 73 DQa (io) "Synchronous Data Input/Output", 74 DQPa (io) "Parity Data I/O", 80 A (in) "Synchronous Address Input", 81 A (in) "Synchronous Address Input", 82 A (in) "Synchronous Address Input", 83 ~{ADV} (in) "Synchronous Burst Address Advance", 84 ~{ADSP} (in) "Synchronous Processor Address Status", 85 ~{ADSC} (in) "Synchronous Controller Address Status", 86 ~{OE} (in) "Output Enable", 87 ~{BWE} (in) "Synchronous Byte Write Enable", 88 ~{GW} (in) "Synchronous Global Write Enable", 89 CLK (in) "Synchronous Clock", 92 ~{CE2} (in) "Synchronous Chip Enable", 93 ~{BWa} (in) "Synchronous Byte Write Enable", 94 ~{BWb} (in) "Synchronous Byte Write Enable", 97 CE2 (in) "Synchronous Chip Enable", 98 ~{CE} (in) "Synchronous Chip Enable", 99 A (in) "Synchronous Address Input", 100 A (in) "Synchronous Address Input"
part B pins: 4 VDDQ (power) "Isolated Output Buffer Supply: 3.3V/2.5V", 5 VSS (power) "Ground", 10 VSS (power) "Ground", 11 VDDQ (power) "Isolated Output Buffer Supply: 3.3V/2.5V", 15 VDD (power) "3.3V/2.5V Power Supply", 17 VSS (power) "Ground", 20 VDDQ (power) "Isolated Output Buffer Supply: 3.3V/2.5V", 21 VSS (power) "Ground", 26 VSS (power) "Ground", 27 VDDQ (power) "Isolated Output Buffer Supply: 3.3V/2.5V", 40 VSS (power) "Ground", 41 VDD (power) "3.3V/2.5V Power Supply", 54 VDDQ (power) "Isolated Output Buffer Supply: 3.3V/2.5V", 55 VSS (power) "Ground", 60 VSS (power) "Ground", 61 VDDQ (power) "Isolated Output Buffer Supply: 3.3V/2.5V", 65 VDD (power) "3.3V/2.5V Power Supply", 67 VSS (power) "Ground", 70 VDDQ (power) "Isolated Output Buffer Supply: 3.3V/2.5V", 71 VSS (power) "Ground", 76 VSS (power) "Ground", 77 VDDQ (power) "Isolated Output Buffer Supply: 3.3V/2.5V", 90 VSS (power) "Ground", 91 VDD (power) "3.3V/2.5V Power Supply"
part C pins: 1 NC "No Connect", 2 NC "No Connect", 3 NC "No Connect", 6 NC "No Connect", 7 NC "No Connect", 14 NC "No Connect", 16 NC "No Connect", 25 NC "No Connect", 28 NC "No Connect", 29 NC "No Connect", 30 NC "No Connect", 38 NC "No Connect", 51 NC "No Connect", 52 NC "No Connect", 53 NC "No Connect", 56 NC "No Connect", 57 NC "No Connect", 66 NC "No Connect", 75 NC "No Connect", 78 NC "No Connect", 79 NC "No Connect", 95 NC "No Connect", 96 NC "No Connect"

## IS61VF204818A-7.5TQI
designator U?
36 M Synchronous Flow Through SRAM, 2 M x 18, -40 to 85 degC, 100-Pin QFP (TQFP-100); Manufacturer: Integrated Silicon Solution Inc (ISSI); PartNumber: IS61VF204818A-7.5TQI; Density: 36M; Organization: 2Mx18; Packing: Tray / Tube; Vcc: 2.5 V; DatasheetVersion: Rev. B; PackageVersion: Rev. F, 09/2009; PackageReference: TQFP-100; PackageDescription: 100-Pin 20 x 14 mm LQFP, Pitch 0.65 mm; VccQ: 2.5 V; Mounting Technology: Surface Mount; ComponentLink1Description: Manufacturer URL; ComponentLink1URL: http://www.issi.com/US/index.shtml; ComponentLink2Description: Datasheet; ComponentLink2URL: http://www.issi.com/WW/pdf/61VF_LF102436A_204818A.pdf; ComponentLink3Description: Package Specification; ComponentLink3URL: http://www.issi.com/WW/pdf/61VPS_LPS25636A_51218A.pdf
footprint ISSI-TQFP-100-20000X14000DE_N (QFP, 100-Leads, Body 20x14mm, Pitch 0.65mm, IPC Medium Density)
part A pins: 8 DQb (io) "Synchronous Data Input/Output", 9 DQb (io) "Synchronous Data Input/Output", 12 DQb (io) "Synchronous Data Input/Output", 13 DQb (io) "Synchronous Data Input/Output", 18 DQb (io) "Synchronous Data Input/Output", 19 DQb (io) "Synchronous Data Input/Output", 22 DQb (io) "Synchronous Data Input/Output", 23 DQb (io) "Synchronous Data Input/Output", 24 DQPb (io) "Parity Data I/O", 31 MODE (in) "Burst Sequence Mode Selection", 32 A (in) "Synchronous Address Input", 33 A (in) "Synchronous Address Input", 34 A (in) "Synchronous Address Input", 35 A (in) "Synchronous Address Input", 36 A1 (in) "Synchronous Address Input. This pin must tied to the two LSBs of the address bus", 37 A0 (in) "Synchronous Address Input. This pin must tied to the two LSBs of the address bus", 39 A (in) "Synchronous Address Input", 42 A (in) "Synchronous Address Input", 43 A (in) "Synchronous Address Input", 44 A (in) "Synchronous Address Input", 45 A (in) "Synchronous Address Input", 46 A (in) "Synchronous Address Input", 47 A (in) "Synchronous Address Input", 48 A (in) "Synchronous Address Input", 49 A (in) "Synchronous Address Input", 50 A (in) "Synchronous Address Input", 58 DQa (io) "Synchronous Data Input/Output", 59 DQa (io) "Synchronous Data Input/Output", 62 DQa (io) "Synchronous Data Input/Output", 63 DQa (io) "Synchronous Data Input/Output", 64 ZZ (in) "Snooze Enable", 68 DQa (io) "Synchronous Data Input/Output", 69 DQa (io) "Synchronous Data Input/Output", 72 DQa (io) "Synchronous Data Input/Output", 73 DQa (io) "Synchronous Data Input/Output", 74 DQPa (io) "Parity Data I/O", 80 A (in) "Synchronous Address Input", 81 A (in) "Synchronous Address Input", 82 A (in) "Synchronous Address Input", 83 ~{ADV} (in) "Synchronous Burst Address Advance", 84 ~{ADSP} (in) "Synchronous Processor Address Status", 85 ~{ADSC} (in) "Synchronous Controller Address Status", 86 ~{OE} (in) "Output Enable", 87 ~{BWE} (in) "Synchronous Byte Write Enable", 88 ~{GW} (in) "Synchronous Global Write Enable", 89 CLK (in) "Synchronous Clock", 92 ~{CE2} (in) "Synchronous Chip Enable", 93 ~{BWa} (in) "Synchronous Byte Write Enable", 94 ~{BWb} (in) "Synchronous Byte Write Enable", 97 CE2 (in) "Synchronous Chip Enable", 98 ~{CE} (in) "Synchronous Chip Enable", 99 A (in) "Synchronous Address Input", 100 A (in) "Synchronous Address Input"
part B pins: 4 VDDQ (power) "Isolated Output Buffer Supply: 3.3V/2.5V", 5 VSS (power) "Ground", 10 VSS (power) "Ground", 11 VDDQ (power) "Isolated Output Buffer Supply: 3.3V/2.5V", 15 VDD (power) "3.3V/2.5V Power Supply", 17 VSS (power) "Ground", 20 VDDQ (power) "Isolated Output Buffer Supply: 3.3V/2.5V", 21 VSS (power) "Ground", 26 VSS (power) "Ground", 27 VDDQ (power) "Isolated Output Buffer Supply: 3.3V/2.5V", 40 VSS (power) "Ground", 41 VDD (power) "3.3V/2.5V Power Supply", 54 VDDQ (power) "Isolated Output Buffer Supply: 3.3V/2.5V", 55 VSS (power) "Ground", 60 VSS (power) "Ground", 61 VDDQ (power) "Isolated Output Buffer Supply: 3.3V/2.5V", 65 VDD (power) "3.3V/2.5V Power Supply", 67 VSS (power) "Ground", 70 VDDQ (power) "Isolated Output Buffer Supply: 3.3V/2.5V", 71 VSS (power) "Ground", 76 VSS (power) "Ground", 77 VDDQ (power) "Isolated Output Buffer Supply: 3.3V/2.5V", 90 VSS (power) "Ground", 91 VDD (power) "3.3V/2.5V Power Supply"
part C pins: 1 NC "No Connect", 2 NC "No Connect", 3 NC "No Connect", 6 NC "No Connect", 7 NC "No Connect", 14 NC "No Connect", 16 NC "No Connect", 25 NC "No Connect", 28 NC "No Connect", 29 NC "No Connect", 30 NC "No Connect", 38 NC "No Connect", 51 NC "No Connect", 52 NC "No Connect", 53 NC "No Connect", 56 NC "No Connect", 57 NC "No Connect", 66 NC "No Connect", 75 NC "No Connect", 78 NC "No Connect", 79 NC "No Connect", 95 NC "No Connect", 96 NC "No Connect"

## IS61VF204818A-7.5TQI-TR
designator U?
36 M Synchronous Flow Through SRAM, 2 M x 18, -40 to 85 degC, 100-Pin QFP (TQFP-100); Manufacturer: Integrated Silicon Solution Inc (ISSI); PartNumber: IS61VF204818A-7.5TQI-TR; Density: 36M; Organization: 2Mx18; Packing: Tape & Reel; Vcc: 2.5 V; DatasheetVersion: Rev. B; PackageVersion: Rev. F, 09/2009; PackageReference: TQFP-100; PackageDescription: 100-Pin 20 x 14 mm LQFP, Pitch 0.65 mm; VccQ: 2.5 V; Mounting Technology: Surface Mount; ComponentLink1Description: Manufacturer URL; ComponentLink1URL: http://www.issi.com/US/index.shtml; ComponentLink2Description: Datasheet; ComponentLink2URL: http://www.issi.com/WW/pdf/61VF_LF102436A_204818A.pdf; ComponentLink3Description: Package Specification; ComponentLink3URL: http://www.issi.com/WW/pdf/61VPS_LPS25636A_51218A.pdf
footprint ISSI-TQFP-100-20000X14000DE_N (QFP, 100-Leads, Body 20x14mm, Pitch 0.65mm, IPC Medium Density)
part A pins: 8 DQb (io) "Synchronous Data Input/Output", 9 DQb (io) "Synchronous Data Input/Output", 12 DQb (io) "Synchronous Data Input/Output", 13 DQb (io) "Synchronous Data Input/Output", 18 DQb (io) "Synchronous Data Input/Output", 19 DQb (io) "Synchronous Data Input/Output", 22 DQb (io) "Synchronous Data Input/Output", 23 DQb (io) "Synchronous Data Input/Output", 24 DQPb (io) "Parity Data I/O", 31 MODE (in) "Burst Sequence Mode Selection", 32 A (in) "Synchronous Address Input", 33 A (in) "Synchronous Address Input", 34 A (in) "Synchronous Address Input", 35 A (in) "Synchronous Address Input", 36 A1 (in) "Synchronous Address Input. This pin must tied to the two LSBs of the address bus", 37 A0 (in) "Synchronous Address Input. This pin must tied to the two LSBs of the address bus", 39 A (in) "Synchronous Address Input", 42 A (in) "Synchronous Address Input", 43 A (in) "Synchronous Address Input", 44 A (in) "Synchronous Address Input", 45 A (in) "Synchronous Address Input", 46 A (in) "Synchronous Address Input", 47 A (in) "Synchronous Address Input", 48 A (in) "Synchronous Address Input", 49 A (in) "Synchronous Address Input", 50 A (in) "Synchronous Address Input", 58 DQa (io) "Synchronous Data Input/Output", 59 DQa (io) "Synchronous Data Input/Output", 62 DQa (io) "Synchronous Data Input/Output", 63 DQa (io) "Synchronous Data Input/Output", 64 ZZ (in) "Snooze Enable", 68 DQa (io) "Synchronous Data Input/Output", 69 DQa (io) "Synchronous Data Input/Output", 72 DQa (io) "Synchronous Data Input/Output", 73 DQa (io) "Synchronous Data Input/Output", 74 DQPa (io) "Parity Data I/O", 80 A (in) "Synchronous Address Input", 81 A (in) "Synchronous Address Input", 82 A (in) "Synchronous Address Input", 83 ~{ADV} (in) "Synchronous Burst Address Advance", 84 ~{ADSP} (in) "Synchronous Processor Address Status", 85 ~{ADSC} (in) "Synchronous Controller Address Status", 86 ~{OE} (in) "Output Enable", 87 ~{BWE} (in) "Synchronous Byte Write Enable", 88 ~{GW} (in) "Synchronous Global Write Enable", 89 CLK (in) "Synchronous Clock", 92 ~{CE2} (in) "Synchronous Chip Enable", 93 ~{BWa} (in) "Synchronous Byte Write Enable", 94 ~{BWb} (in) "Synchronous Byte Write Enable", 97 CE2 (in) "Synchronous Chip Enable", 98 ~{CE} (in) "Synchronous Chip Enable", 99 A (in) "Synchronous Address Input", 100 A (in) "Synchronous Address Input"
part B pins: 4 VDDQ (power) "Isolated Output Buffer Supply: 3.3V/2.5V", 5 VSS (power) "Ground", 10 VSS (power) "Ground", 11 VDDQ (power) "Isolated Output Buffer Supply: 3.3V/2.5V", 15 VDD (power) "3.3V/2.5V Power Supply", 17 VSS (power) "Ground", 20 VDDQ (power) "Isolated Output Buffer Supply: 3.3V/2.5V", 21 VSS (power) "Ground", 26 VSS (power) "Ground", 27 VDDQ (power) "Isolated Output Buffer Supply: 3.3V/2.5V", 40 VSS (power) "Ground", 41 VDD (power) "3.3V/2.5V Power Supply", 54 VDDQ (power) "Isolated Output Buffer Supply: 3.3V/2.5V", 55 VSS (power) "Ground", 60 VSS (power) "Ground", 61 VDDQ (power) "Isolated Output Buffer Supply: 3.3V/2.5V", 65 VDD (power) "3.3V/2.5V Power Supply", 67 VSS (power) "Ground", 70 VDDQ (power) "Isolated Output Buffer Supply: 3.3V/2.5V", 71 VSS (power) "Ground", 76 VSS (power) "Ground", 77 VDDQ (power) "Isolated Output Buffer Supply: 3.3V/2.5V", 90 VSS (power) "Ground", 91 VDD (power) "3.3V/2.5V Power Supply"
part C pins: 1 NC "No Connect", 2 NC "No Connect", 3 NC "No Connect", 6 NC "No Connect", 7 NC "No Connect", 14 NC "No Connect", 16 NC "No Connect", 25 NC "No Connect", 28 NC "No Connect", 29 NC "No Connect", 30 NC "No Connect", 38 NC "No Connect", 51 NC "No Connect", 52 NC "No Connect", 53 NC "No Connect", 56 NC "No Connect", 57 NC "No Connect", 66 NC "No Connect", 75 NC "No Connect", 78 NC "No Connect", 79 NC "No Connect", 95 NC "No Connect", 96 NC "No Connect"